# EAGLE library part MOUDLE-WIFI-ESP8266-12E/ESP-12E(22P-24X16MM) (library custom)
317060015
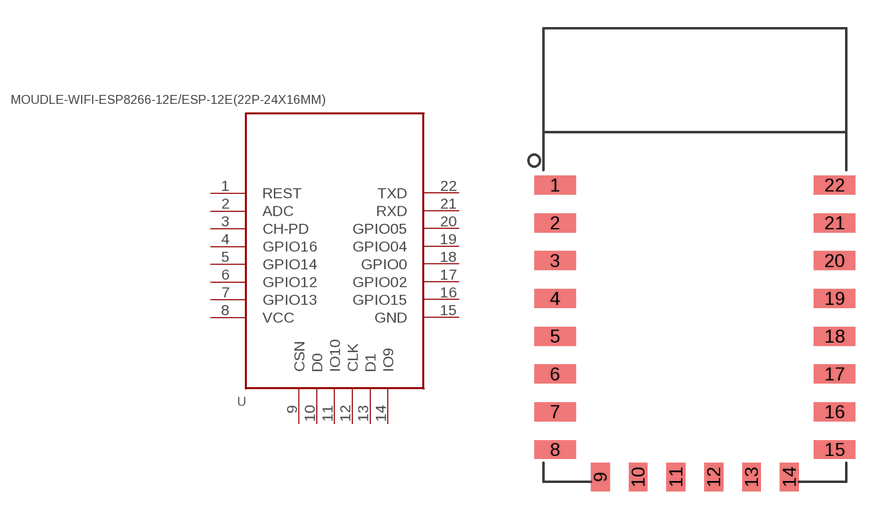
[diagram p5: symbol with the pads of LGA22-2.0-24X16MM; footprint LGA22-2.0-24X16MM]

Designator prefix U

## MOUDLE-WIFI-ESP8266-12E/ESP-12E(22P-24X16MM) (MPN: ESP8266-12E/ESP-12E; VALUE: ESP8266-12E/ESP-12E)  [LGA22-2.0-24X16MM]
1  REST
2  ADC
3  CH-PD
4  GPIO16
5  GPIO14
6  GPIO12
7  GPIO13
8  VCC
9  CSN
10  D0
11  IO10
12  CLK
13  D1
14  IO9
15  GND
16  GPIO15
17  GPIO02
18  GPIO0
19  GPIO04
20  GPIO05
21  RXD
22  TXD

## Footprint LGA22-2.0-24X16MM (pad centres in mm)
smd 2.2 x 1: 1 -7.4,3.7; 2 -7.4,1.7; 3 -7.4,-0.3; 4 -7.4,-2.3; 5 -7.4,-4.3; 6 -7.4,-6.3; 7 -7.4,-8.3; 8 -7.4,-10.3; 15 7.4,-10.3; 16 7.4,-8.3; 17 7.4,-6.3; 18 7.4,-4.3; 19 7.4,-2.3; 20 7.4,-0.3; 21 7.4,1.7; 22 7.4,3.7
smd 1 x 1.5: 9 -5,-11.75; 10 -3,-11.75; 11 -1,-11.75; 12 1,-11.75; 13 3,-11.75; 14 5,-11.75